# Altium footprint library Murata_DC_DC_5V_7.5W.PcbLib: 1 footprints
Each footprint in its own frame and in the unit in brackets; x right, y up, seen from the top. Pads: shape width x height; smd on the part's side, far side on the other; paste and mask are expansions set on the pad; w line width, h text height; cw(c..) or ccw(c..) is an arc to the next point about the centre after c.
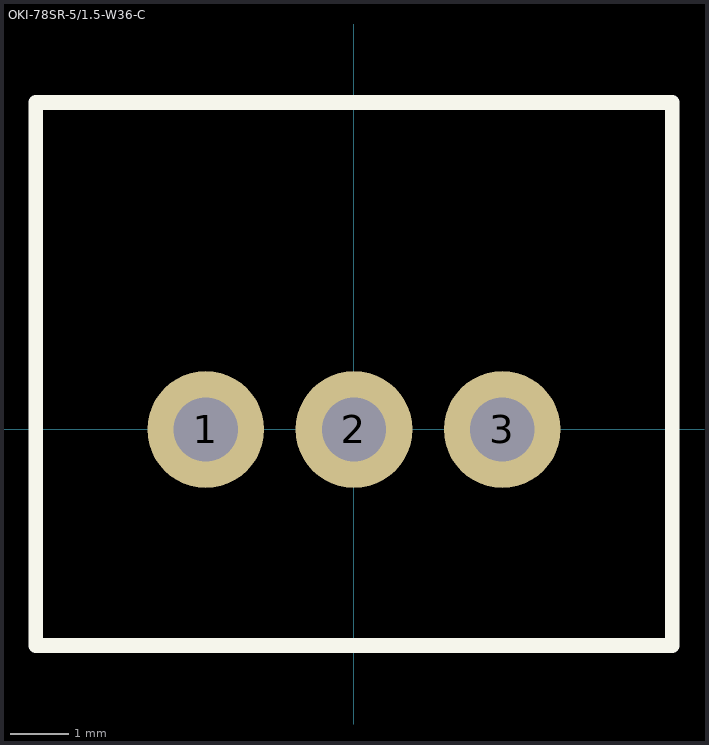
[diagram p0: the footprint, top view; thin cyan lines are the x and y axes]

## OKI-78SR-5/1.5-W36-C [mm] "Non-Isolated DC/DC Converters 7.5W 24Vin 5Vout1 1.5A SIP Non-Iso"
height 16.5
pads (3):
  round 2 hole 1.1: 1(-2.54,0) 2(0,0) 3(2.54,0)
Top Overlay:
  lines w0.254: -5.45,-3.7 5.45,-3.7 5.45,5.6 -5.45,5.6 -5.45,-3.7
3D body "mps_dcdc_oki_78sr_a.step": height 16.51, standoff -3.3, extent -5.207,-2.834 5.207,4.9